# Altium schematic symbol library WPME-VDLM.SchLib: 11 symbols
Pins are listed as number, name and electrical type; pins without a type are passive.

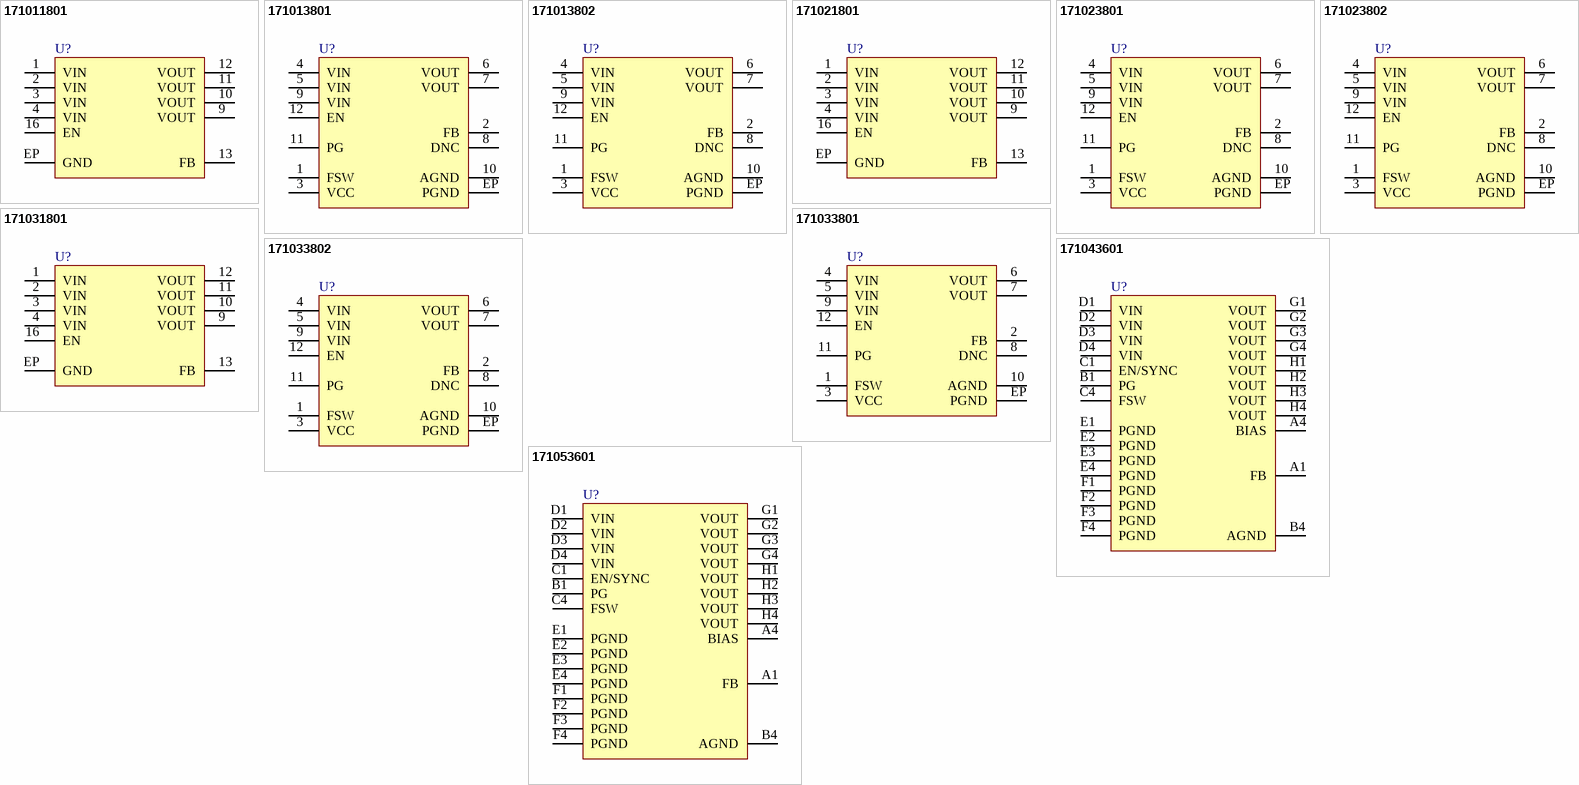
[diagram p0: symbols 171011801 to 171053601]

## 171011801
designator U?, comment 4-18Vin, 0.8-17Vout, 1Aout  (value not drawn)
WPME-VDLM Variable Step Down LGA Module, SMT, LGA-16EP, 4-18Vin, 0.8-17Vout, 1Aout; Manufacturer Part Number: 171011801; Manufacturer: Wurth Elektronik; Input Voltage Min: 4V; Input Voltage Max: 18V; Output Current: 1A; Output Voltage Min: 0.8V; Output Voltage Max: 17V; Category: Step Down Converter; Match Code: WPME-VDLM; ComponentLink1Description: Website Link; ComponentLink1URL: https://www.we-online.com/redexpert/article/171011801?ad; ComponentLink2Description: Datasheet Link; ComponentLink2URL: https://www.we-online.com/redexpert/spec/171011801?ad; Mount: Surface Mount; Min Operating Temperature: -40°C; Max Operating Temperature: 125°C; Packaging: Tape and Reel; Case/Size Code: LGA-16EP; Length: 9mm; Width: 9mm; Height: 3mm
footprint WPME-VDLM_LGA-16EP
pins: 1 VIN, 2 VIN, 3 VIN, 4 VIN, 9 VOUT, 10 VOUT, 11 VOUT, 12 VOUT, 13 FB, 16 EN, EP GND

## 171013801
designator U?, comment 3.5-38Vin, 0.85-13Vout, 1Aout  (value not drawn)
WPME-VDLM Variable Step Down LGA Module, SMT, LGA-12EP, 3.5-38Vin, 0.85-13Vout, 1Aout; Manufacturer Part Number: 171013801; Manufacturer: Wurth Elektronik; Input Voltage Min: 3.5V; Input Voltage Max: 38V; Output Current: 1A; Output Voltage Min: 0.85V; Output Voltage Max: 13V; Category: Step Down Converter; Match Code: WPME-VDLM; ComponentLink1Description: Website Link; ComponentLink1URL: https://www.we-online.com/redexpert/article/171013801?ad; ComponentLink2Description: Datasheet Link; ComponentLink2URL: https://www.we-online.com/redexpert/spec/171013801?ad; Mount: Surface Mount; Min Operating Temperature: -40°C; Max Operating Temperature: 125°C; Packaging: Tape and Reel; Case/Size Code: LGA-12EP; Length: 10mm; Width: 6mm; Height: 3.1mm
footprint WPME-VDLM_LGA-12EP
pins: 1 FSW, 2 FB, 3 VCC, 4 VIN, 5 VIN, 6 VOUT, 7 VOUT, 8 DNC, 9 VIN, 10 AGND, 11 PG, 12 EN, EP PGND

## 171013802
designator U?, comment 3.5-38Vin, 0.85-13Vout, 1Aout  (value not drawn)
WPME-VDLM Variable Step Down LGA Module, SMT, LGA-12EP, 3.5-38Vin, 0.85-13Vout, 1Aout; Manufacturer Part Number: 171013802; Manufacturer: Wurth Elektronik; Input Voltage Min: 3.5V; Input Voltage Max: 38V; Output Current: 1A; Output Voltage Min: 0.85V; Output Voltage Max: 13V; Category: Step Down Converter; Match Code: WPME-VDLM; ComponentLink1Description: Website Link; ComponentLink1URL: https://www.we-online.com/redexpert/article/171013802?ad; ComponentLink2Description: Datasheet Link; ComponentLink2URL: https://www.we-online.com/redexpert/spec/171013802?ad; Mount: Surface Mount; Min Operating Temperature: -40°C; Max Operating Temperature: 125°C; Packaging: Tape and Reel; Case/Size Code: LGA-12EP; Length: 10mm; Width: 6mm; Height: 3.1mm
footprint WPME-VDLM_LGA-12EP
pins: 1 FSW, 2 FB, 3 VCC, 4 VIN, 5 VIN, 6 VOUT, 7 VOUT, 8 DNC, 9 VIN, 10 AGND, 11 PG, 12 EN, EP PGND

## 171021801
designator U?, comment 4-18Vin, 0.8-17Vout, 2Aout  (value not drawn)
WPME-VDLM Variable Step Down LGA Module, SMT, LGA-16EP, 4-18Vin, 0.8-17Vout, 2Aout; Manufacturer Part Number: 171021801; Manufacturer: Wurth Elektronik; Input Voltage Min: 4V; Input Voltage Max: 18V; Output Current: 2A; Output Voltage Min: 0.8V; Output Voltage Max: 17V; Category: Step Down Converter; Match Code: WPME-VDLM; ComponentLink1Description: Website Link; ComponentLink1URL: https://www.we-online.com/redexpert/article/171021801?ad; ComponentLink2Description: Datasheet Link; ComponentLink2URL: https://www.we-online.com/redexpert/spec/171021801?ad; Mount: Surface Mount; Min Operating Temperature: -40°C; Max Operating Temperature: 125°C; Packaging: Tape and Reel; Case/Size Code: LGA-16EP; Length: 9mm; Width: 9mm; Height: 3mm
footprint WPME-VDLM_LGA-16EP
pins: 1 VIN, 2 VIN, 3 VIN, 4 VIN, 9 VOUT, 10 VOUT, 11 VOUT, 12 VOUT, 13 FB, 16 EN, EP GND

## 171023801
designator U?, comment 3.5-38Vin, 0.85-13Vout, 2Aout  (value not drawn)
WPME-VDLM Variable Step Down LGA Module, SMT, LGA-12EP, 3.5-38Vin, 0.85-13Vout, 2Aout; Manufacturer Part Number: 171023801; Manufacturer: Wurth Elektronik; Input Voltage Min: 3.5V; Input Voltage Max: 38V; Output Current: 2A; Output Voltage Min: 0.85V; Output Voltage Max: 13V; Category: Step Down Converter; Match Code: WPME-VDLM; ComponentLink1Description: Website Link; ComponentLink1URL: https://www.we-online.com/redexpert/article/171023801?ad; ComponentLink2Description: Datasheet Link; ComponentLink2URL: https://www.we-online.com/redexpert/spec/171023801?ad; Mount: Surface Mount; Min Operating Temperature: -40°C; Max Operating Temperature: 125°C; Packaging: Tape and Reel; Case/Size Code: LGA-12EP; Length: 10mm; Width: 6mm; Height: 3.1mm
footprint WPME-VDLM_LGA-12EP
pins: 1 FSW, 2 FB, 3 VCC, 4 VIN, 5 VIN, 6 VOUT, 7 VOUT, 8 DNC, 9 VIN, 10 AGND, 11 PG, 12 EN, EP PGND

## 171023802
designator U?, comment 3.5-38Vin, 0.85-13Vout, 2Aout  (value not drawn)
WPME-VDLM Variable Step Down LGA Module, SMT, LGA-12EP, 3.5-38Vin, 0.85-13Vout, 2Aout; Manufacturer Part Number: 171023802; Manufacturer: Wurth Elektronik; Input Voltage Min: 3.5V; Input Voltage Max: 38V; Output Current: 2A; Output Voltage Min: 0.85V; Output Voltage Max: 13V; Category: Step Down Converter; Match Code: WPME-VDLM; ComponentLink1Description: Website Link; ComponentLink1URL: https://www.we-online.com/redexpert/article/171023802?ad; ComponentLink2Description: Datasheet Link; ComponentLink2URL: https://www.we-online.com/redexpert/spec/171023802?ad; Mount: Surface Mount; Min Operating Temperature: -40°C; Max Operating Temperature: 125°C; Packaging: Tape and Reel; Case/Size Code: LGA-12EP; Length: 10mm; Width: 6mm; Height: 3.1mm
footprint WPME-VDLM_LGA-12EP
pins: 1 FSW, 2 FB, 3 VCC, 4 VIN, 5 VIN, 6 VOUT, 7 VOUT, 8 DNC, 9 VIN, 10 AGND, 11 PG, 12 EN, EP PGND

## 171031801
designator U?, comment 4-18Vin, 0.8-17Vout, 3Aout  (value not drawn)
WPME-VDLM Variable Step Down LGA Module, SMT, LGA-16EP, 4-18Vin, 0.8-17Vout, 3Aout; Manufacturer Part Number: 171031801; Manufacturer: Wurth Elektronik; Input Voltage Min: 4V; Input Voltage Max: 18V; Output Current: 3A; Output Voltage Min: 0.8V; Output Voltage Max: 17V; Category: Step Down Converter; Match Code: WPME-VDLM; ComponentLink1Description: Website Link; ComponentLink1URL: https://www.we-online.com/redexpert/article/171031801?ad; ComponentLink2Description: Datasheet Link; ComponentLink2URL: https://www.we-online.com/redexpert/spec/171031801?ad; Mount: Surface Mount; Min Operating Temperature: -40°C; Max Operating Temperature: 125°C; Packaging: Tape and Reel; Case/Size Code: LGA-16EP; Length: 9mm; Width: 9mm; Height: 3mm
footprint WPME-VDLM_LGA-16EP
pins: 1 VIN, 2 VIN, 3 VIN, 4 VIN, 9 VOUT, 10 VOUT, 11 VOUT, 12 VOUT, 13 FB, 16 EN, EP GND

## 171033801
designator U?, comment 3.5-38Vin, 0.85-6Vout, 3Aout  (value not drawn)
WPME-VDLM Variable Step Down LGA Module, SMT, LGA-12EP, 3.5-38Vin, 0.85-6Vout, 3Aout; Manufacturer Part Number: 171033801; Manufacturer: Wurth Elektronik; Input Voltage Min: 3.5V; Input Voltage Max: 38V; Output Current: 3A; Output Voltage Min: 0.85V; Output Voltage Max: 6V; Category: Step Down Converter; Match Code: WPME-VDLM; ComponentLink1Description: Website Link; ComponentLink1URL: https://www.we-online.com/redexpert/article/171033801?ad; ComponentLink2Description: Datasheet Link; ComponentLink2URL: https://www.we-online.com/redexpert/spec/171033801?ad; Mount: Surface Mount; Min Operating Temperature: -40°C; Max Operating Temperature: 125°C; Packaging: Tape and Reel; Case/Size Code: LGA-12EP; Length: 10mm; Width: 6mm; Height: 3.1mm
footprint WPME-VDLM_LGA-12EP
pins: 1 FSW, 2 FB, 3 VCC, 4 VIN, 5 VIN, 6 VOUT, 7 VOUT, 8 DNC, 9 VIN, 10 AGND, 11 PG, 12 EN, EP PGND

## 171033802
designator U?, comment 3.5-38Vin, 0.85-6Vout, 3Aout  (value not drawn)
WPME-VDLM Variable Step Down LGA Module, SMT, LGA-12EP, 3.5-38Vin, 0.85-6Vout, 3Aout; Manufacturer Part Number: 171033802; Manufacturer: Wurth Elektronik; Input Voltage Min: 3.5V; Input Voltage Max: 38V; Output Current: 3A; Output Voltage Min: 0.85V; Output Voltage Max: 6V; Category: Step Down Converter; Match Code: WPME-VDLM; ComponentLink1Description: Website Link; ComponentLink1URL: https://www.we-online.com/redexpert/article/171033802?ad; ComponentLink2Description: Datasheet Link; ComponentLink2URL: https://www.we-online.com/redexpert/spec/171033802?ad; Mount: Surface Mount; Min Operating Temperature: -40°C; Max Operating Temperature: 125°C; Packaging: Tape and Reel; Case/Size Code: LGA-12EP; Length: 10mm; Width: 6mm; Height: 3.1mm
footprint WPME-VDLM_LGA-12EP
pins: 1 FSW, 2 FB, 3 VCC, 4 VIN, 5 VIN, 6 VOUT, 7 VOUT, 8 DNC, 9 VIN, 10 AGND, 11 PG, 12 EN, EP PGND

## 171043601
designator U?, comment 4-36Vin, 1-6Vout, 4Aout  (value not drawn)
WPME-VDLM Variable Step Down LGA Module, SMT, LGA-26, 4-36Vin, 1-6Vout, 4Aout; Manufacturer Part Number: 171043601; Manufacturer: Wurth Elektronik; Input Voltage Min: 4V; Input Voltage Max: 36V; Output Current: 4A; Output Voltage Min: 1V; Output Voltage Max: 6V; Category: Step Down Converter; Match Code: WPME-VDLM; ComponentLink1Description: Website Link; ComponentLink1URL: https://www.we-online.com/redexpert/article/171043601?ad; ComponentLink2Description: Datasheet Link; ComponentLink2URL: https://www.we-online.com/redexpert/spec/171043601?ad; Mount: Surface Mount; Min Operating Temperature: -40°C; Max Operating Temperature: 125°C; Packaging: Tape and Reel; Case/Size Code: LGA-26; Length: 11mm; Width: 6mm; Height: 3mm
footprint WPME-VDLM_LGA-26
pins: A1 FB, A4 BIAS, B1 PG, B4 AGND, C1 EN/SYNC, C4 FSW, D1 VIN, D2 VIN, D3 VIN, D4 VIN, E1 PGND, E2 PGND, E3 PGND, E4 PGND, F1 PGND, F2 PGND, F3 PGND, F4 PGND, G1 VOUT, G2 VOUT, G3 VOUT, G4 VOUT, H1 VOUT, H2 VOUT, H3 VOUT, H4 VOUT

## 171053601
designator U?, comment 4-36Vin, 1-6Vout, 5Aout  (value not drawn)
WPME-VDLM Variable Step Down LGA Module, SMT, LGA-26, 4-36Vin, 1-6Vout, 5Aout; Manufacturer Part Number: 171053601; Manufacturer: Wurth Elektronik; Input Voltage Min: 4V; Input Voltage Max: 36V; Output Current: 5A; Output Voltage Min: 1V; Output Voltage Max: 6V; Category: Step Down Converter; Match Code: WPME-VDLM; ComponentLink1Description: Website Link; ComponentLink1URL: https://www.we-online.com/redexpert/article/171053601?ad; ComponentLink2Description: Datasheet Link; ComponentLink2URL: https://www.we-online.com/redexpert/spec/171053601?ad; Mount: Surface Mount; Min Operating Temperature: -40°C; Max Operating Temperature: 125°C; Packaging: Tape and Reel; Case/Size Code: LGA-26; Length: 11mm; Width: 6mm; Height: 3mm
footprint WPME-VDLM_LGA-26
pins: A1 FB, A4 BIAS, B1 PG, B4 AGND, C1 EN/SYNC, C4 FSW, D1 VIN, D2 VIN, D3 VIN, D4 VIN, E1 PGND, E2 PGND, E3 PGND, E4 PGND, F1 PGND, F2 PGND, F3 PGND, F4 PGND, G1 VOUT, G2 VOUT, G3 VOUT, G4 VOUT, H1 VOUT, H2 VOUT, H3 VOUT, H4 VOUT